# EAGLE library part 50499-006 (library con-aces-50499-series)
ACES CONNECTORS 50499 SERIES ACES Connecors 50499 <https://www.acesconn.com/series/50499-xxxxx-xxx/1229>
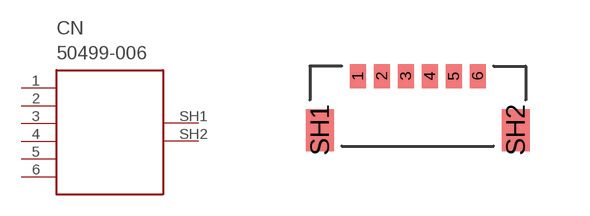
[diagram p2: symbol with the pads of 50499-006; footprint 50499-006]

Designator prefix CN

## 50499-006  [50499-006]
1  1
2  2
3  3
4  4
5  5
6  6
SH1  SH1
SH2  SH2

## Footprint 50499-006 (pad centres in mm)
smd 0.4 x 0.6: 1 -1.5,0; 2 -0.9,0; 3 -0.3,0; 4 0.3,0; 5 0.9,0; 6 1.5,0
smd 0.7 x 1.05: SH1 -2.45,-1.35; SH2 2.45,-1.35